# Altium schematic symbol library LP2950ACZ.SchLib: 1 symbol
Pins are listed as number, name and electrical type; pins without a type are passive.

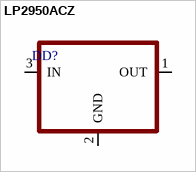
[diagram p0: symbol LP2950ACZ]

## LP2950ACZ
designator DD?
pins: 1 OUT, 2 GND, 3 IN